# Altium footprint library TestPoint.PcbLib: 57 footprints (part 4 of 4)
Each footprint in its own frame and in the unit in brackets; x right, y up, seen from the top. Pads: shape width x height; smd on the part's side, far side on the other; paste and mask are expansions set on the pad; w line width, h text height; cw(c..) or ccw(c..) is an arc to the next point about the centre after c.
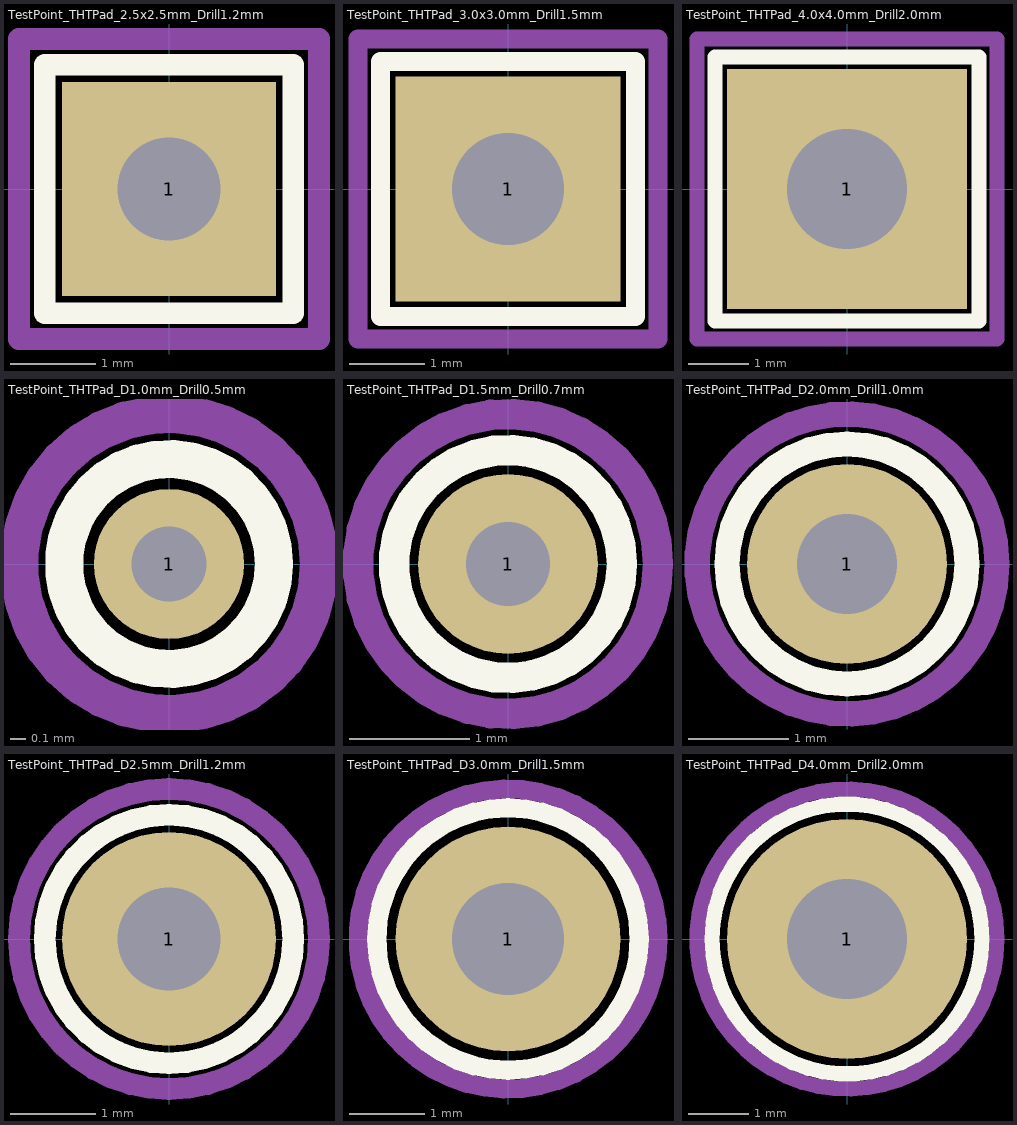
[diagram p3: the footprints below, top view; thin cyan lines are the x and y axes]

## TestPoint_THTPad_2.5x2.5mm_Drill1.2mm [mm]
pads (1):
  rect 2.5x2.5 hole 1.2: 1(0,0)
F.SilkS:
  lines w0.254: -1.45,-1.45 1.45,-1.45 1.45,1.45 -1.45,1.45 -1.45,-1.45
Top Assembly:
  text "'.Designator'" at -4.047,1.31 h1
Top Courtyard:
  lines w0.254: -1.75,-1.75 1.75,-1.75 1.75,1.75 -1.75,1.75 -1.75,-1.75
Top Designator:
  text ".Designator" at -7.768,-0.193 h1.52

## TestPoint_THTPad_3.0x3.0mm_Drill1.5mm [mm]
pads (1):
  rect 3x3 hole 1.5: 1(0,0)
F.SilkS:
  lines w0.254: -1.7,-1.7 1.7,-1.7 1.7,1.7 -1.7,1.7 -1.7,-1.7
Top Assembly:
  text "'.Designator'" at -4.047,1.56 h1
Top Courtyard:
  lines w0.254: -2,-2 2,-2 2,2 -2,2 -2,-2
Top Designator:
  text ".Designator" at -7.768,-0.193 h1.52

## TestPoint_THTPad_4.0x4.0mm_Drill2.0mm [mm]
pads (1):
  rect 4x4 hole 2: 1(0,0)
F.SilkS:
  lines w0.254: -2.2,-2.2 2.2,-2.2 2.2,2.2 -2.2,2.2 -2.2,-2.2
Top Assembly:
  text "'.Designator'" at -4.047,2.06 h1
Top Courtyard:
  lines w0.254: -2.5,-2.5 2.5,-2.5 2.5,2.5 -2.5,2.5 -2.5,-2.5
Top Designator:
  text ".Designator" at -7.768,-0.193 h1.52

## TestPoint_THTPad_D1.0mm_Drill0.5mm [mm]
pads (1):
  round 1 hole 0.5: 1(0,0)
F.SilkS:
  circle w0.254: c0,0 r0.7
Top Assembly:
  text "'.Designator'" at -4.047,0.61 h1
Top Courtyard:
  circle w0.254: c0,0 r1
Top Designator:
  text ".Designator" at -7.768,-0.168 h1.52

## TestPoint_THTPad_D1.5mm_Drill0.7mm [mm]
pads (1):
  round 1.5 hole 0.7: 1(0,0)
F.SilkS:
  circle w0.254: c0,0 r0.95
Top Assembly:
  text "'.Designator'" at -4.047,0.81 h1
Top Courtyard:
  circle w0.254: c0,0 r1.25
Top Designator:
  text ".Designator" at -7.768,-0.193 h1.52

## TestPoint_THTPad_D2.0mm_Drill1.0mm [mm]
pads (1):
  round 2 hole 1: 1(0,0)
F.SilkS:
  circle w0.254: c0,0 r1.2
Top Assembly:
  text "'.Designator'" at -4.047,1.16 h1
Top Courtyard:
  circle w0.254: c0,0 r1.5
Top Designator:
  text ".Designator" at -7.768,-0.143 h1.52

## TestPoint_THTPad_D2.5mm_Drill1.2mm [mm]
pads (1):
  round 2.5 hole 1.2: 1(0,0)
F.SilkS:
  circle w0.254: c0,0 r1.45
Top Assembly:
  text "'.Designator'" at -4.047,1.31 h1
Top Courtyard:
  circle w0.254: c0,0 r1.75
Top Designator:
  text ".Designator" at -7.768,-0.193 h1.52

## TestPoint_THTPad_D3.0mm_Drill1.5mm [mm]
pads (1):
  round 3 hole 1.5: 1(0,0)
F.SilkS:
  circle w0.254: c0,0 r1.75
Top Assembly:
  text "'.Designator'" at -4.047,1.56 h1
Top Courtyard:
  circle w0.254: c0,0 r2
Top Designator:
  text ".Designator" at -7.768,-0.193 h1.52

## TestPoint_THTPad_D4.0mm_Drill2.0mm [mm]
pads (1):
  round 4 hole 2: 1(0,0)
F.SilkS:
  circle w0.254: c0,0 r2.25
Top Assembly:
  text "'.Designator'" at -3.897,-0.357 h1
Top Courtyard:
  circle w0.254: c0,0 r2.5
Top Designator:
  text ".Designator" at -3.435,-0.344 h1.52